# Altium footprint library DF9-21P-1V_32.PcbLib: 1 footprints
Each footprint in its own frame and in the unit in brackets; x right, y up, seen from the top. Pads: shape width x height; smd on the part's side, far side on the other; paste and mask are expansions set on the pad; w line width, h text height; cw(c..) or ccw(c..) is an arc to the next point about the centre after c.
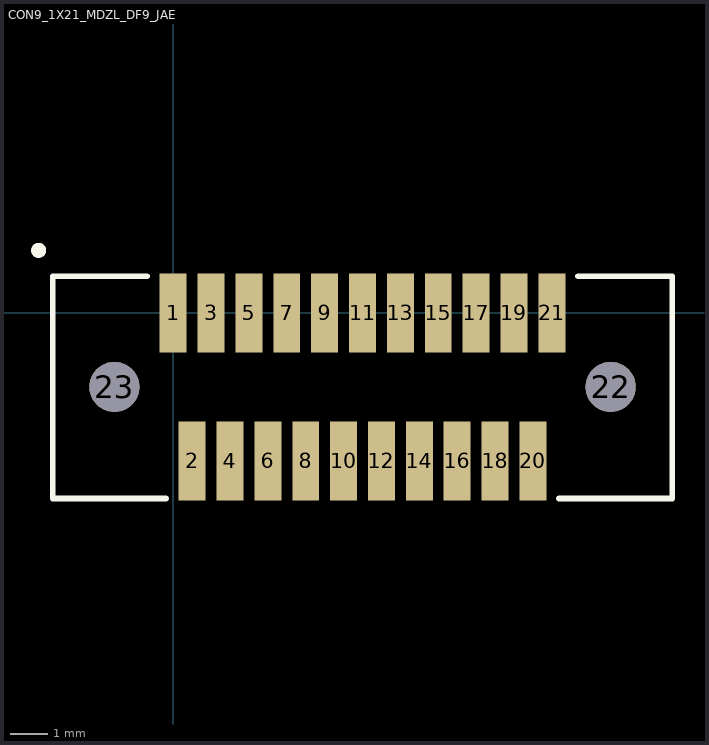
[diagram p0: the footprint, top view; thin cyan lines are the x and y axes]

## CON9_1X21_MDZL_DF9_JAE [mil]
pads (23):
  rect 28x82 smd: 1(0,0) 2(19.68,-154) 3(39.37,0) 4(59.06,-154) 5(78.74,0) 6(98.43,-154) 7(118.11,0) 8(137.8,-154) 9(157.48,0) 10(177.17,-154) 11(196.85,0) 12(216.54,-154) 13(236.22,0) 14(255.91,-154) 15(275.59,0) 16(295.28,-154) 17(314.96,0) 18(334.65,-154) 19(354.33,0) 20(374.02,-154) 21(393.7,0)
  round 52 hole 52 unplated: 22(454.85,-77) 23(-61.15,-77)
Top Overlay:
  circle w10: c-140,65 r2.85
  lines w6: -27.1,38 -125.15,38 -125.15,-193 -7.42,-193 ; 401.12,-193 518.85,-193 518.85,38 420.8,38
3D body: height 10, standoff 0, extent -10,-10 0,0